# EAGLE library part V__VFD_FIP12EM8 (library ++Bedrahtet)
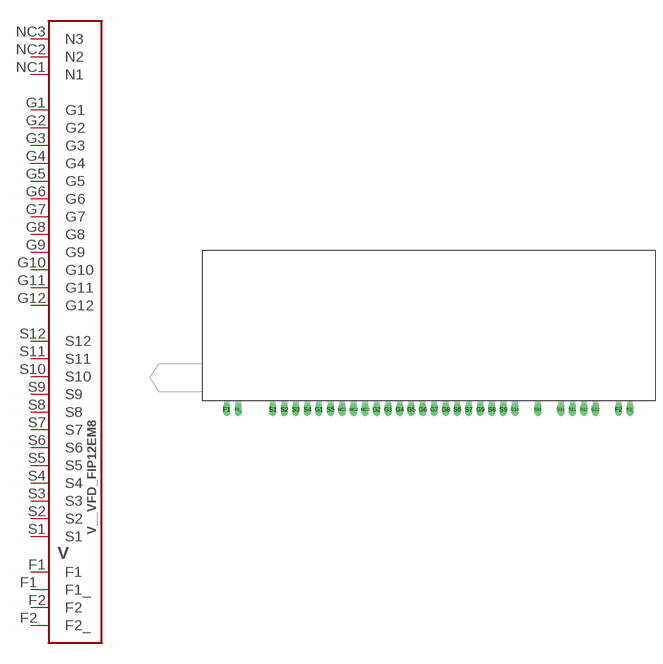
[diagram p55: symbol with the pads of VFD_FIP12EM8; footprint VFD_FIP12EM8]

Designator prefix V

## V__VFD_FIP12EM8  [VFD_FIP12EM8]
F1  F1
F1_  F1_
F2  F2
F2_  F2_
G1  G1
G2  G2
G3  G3
G4  G4
G5  G5
G6  G6
G7  G7
G8  G8
G9  G9
G10  G10
G11  G11
G12  G12
NC1  N1
NC2  N2
NC3  N3
S1  S1
S2  S2
S3  S3
S4  S4
S5  S5
S6  S6
S7  S7
S8  S8
S9  S9
S10  S10
S11  S11
S12  S12

## Footprint VFD_FIP12EM8 (pad centres in mm)
drill 1 long: F1 0,0; F1_ 2.54,0; F2 86.36,0; F2_ 88.9,0; G1 20.32,0; G2 33.02,0; G3 35.56,0; G4 38.1,0; G5 40.64,0; G6 43.18,0; G7 45.72,0; G8 48.26,0; G9 55.88,0; G10 63.5,0; G11 73.66,0; G12 81.28,0; NC1 25.4,0; NC2 27.94,0; NC3 30.48,0; S1 10.16,0; S2 12.7,0; S3 15.24,0; S4 17.78,0; S5 22.86,0; S6 50.8,0; S7 53.34,0; S8 58.42,0; S9 60.96,0; S10 68.58,0; S11 76.2,0; S12 78.74,0